# Altium schematic symbol library TP124005.SchLib: 1 symbol
Pins are listed as number, name and electrical type; pins without a type are passive.

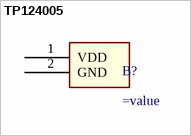
[diagram p0: symbol TP124005]

## TP124005
designator B?
pins: 1 VDD, 2 GND